# EAGLE library part HDR-1X18 (library con-hdrs40)
HEADER CONNECTOR
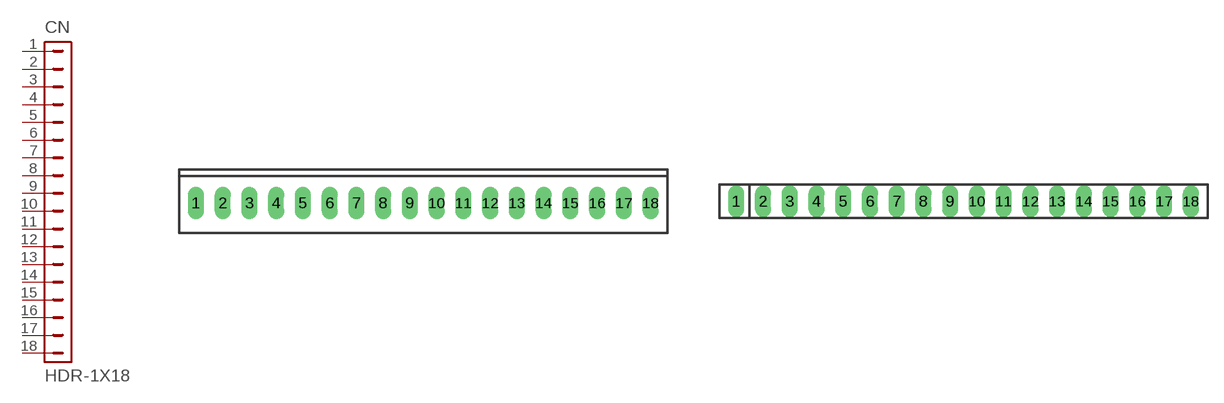
[diagram p12: symbol with the pads of MTA-100-18V; footprints MTA-100-18V, SIP-100-18V]

Designator prefix CN

## HDR-1X18-MTA-100  [MTA-100-18V]
1  1  pas
2  2  pas
3  3  pas
4  4  pas
5  5  pas
6  6  pas
7  7  pas
8  8  pas
9  9  pas
10  10  pas
11  11  pas
12  12  pas
13  13  pas
14  14  pas
15  15  pas
16  16  pas
17  17  pas
18  18  pas

## HDR-1X18-SIP-100  [SIP-100-18V]
Pads as for MTA-100-18V

## HDR-1X18-FH21-18  [FH21-18]
Pads as for MTA-100-18V

## Footprint MTA-100-18V (pad centres in mm)
AMP MTA Vertical .100" 18 pin
drill 1.016 long: 1 -21.59,0; 2 -19.05,0; 3 -16.51,0; 4 -13.97,0; 5 -11.43,0; 6 -8.89,0; 7 -6.35,0; 8 -3.81,0; 9 -1.27,0; 10 1.27,0; 11 3.81,0; 12 6.35,0; 13 8.89,0; 14 11.43,0; 15 13.97,0; 16 16.51,0; 17 19.05,0; 18 21.59,0

## Footprint SIP-100-18V (pad centres in mm)
SIP Header Vertical 100" 18 pin
drill 1.016 long: 1 -21.59,0; 2 -19.05,0; 3 -16.51,0; 4 -13.97,0; 5 -11.43,0; 6 -8.89,0; 7 -6.35,0; 8 -3.81,0; 9 -1.27,0; 10 1.27,0; 11 3.81,0; 12 6.35,0; 13 8.89,0; 14 11.43,0; 15 13.97,0; 16 16.51,0; 17 19.05,0; 18 21.59,0

## Footprint FH21-18 (pad centres in mm)
Hirose FH21 1 MM Flex Connector right angle, 18 pin,
drill 0.813 square: 1 -8.5,-1
drill 0.813: 2 -7.5,1; 3 -6.5,-1; 4 -5.5,1; 5 -4.5,-1; 6 -3.5,1; 7 -2.5,-1; 8 -1.5,1; 9 -0.5,-1; 10 0.5,1; 11 1.5,-1; 12 2.5,1; 13 3.5,-1; 14 4.5,1; 15 5.5,-1; 16 6.5,1; 17 7.5,-1; 18 8.5,1